# Altium footprint library UC-PCB.PcbLib: 145 footprints (part 8 of 10)
Each footprint in its own frame and in the unit in brackets; x right, y up, seen from the top. Pads: shape width x height; smd on the part's side, far side on the other; paste and mask are expansions set on the pad; w line width, h text height; cw(c..) or ccw(c..) is an arc to the next point about the centre after c.
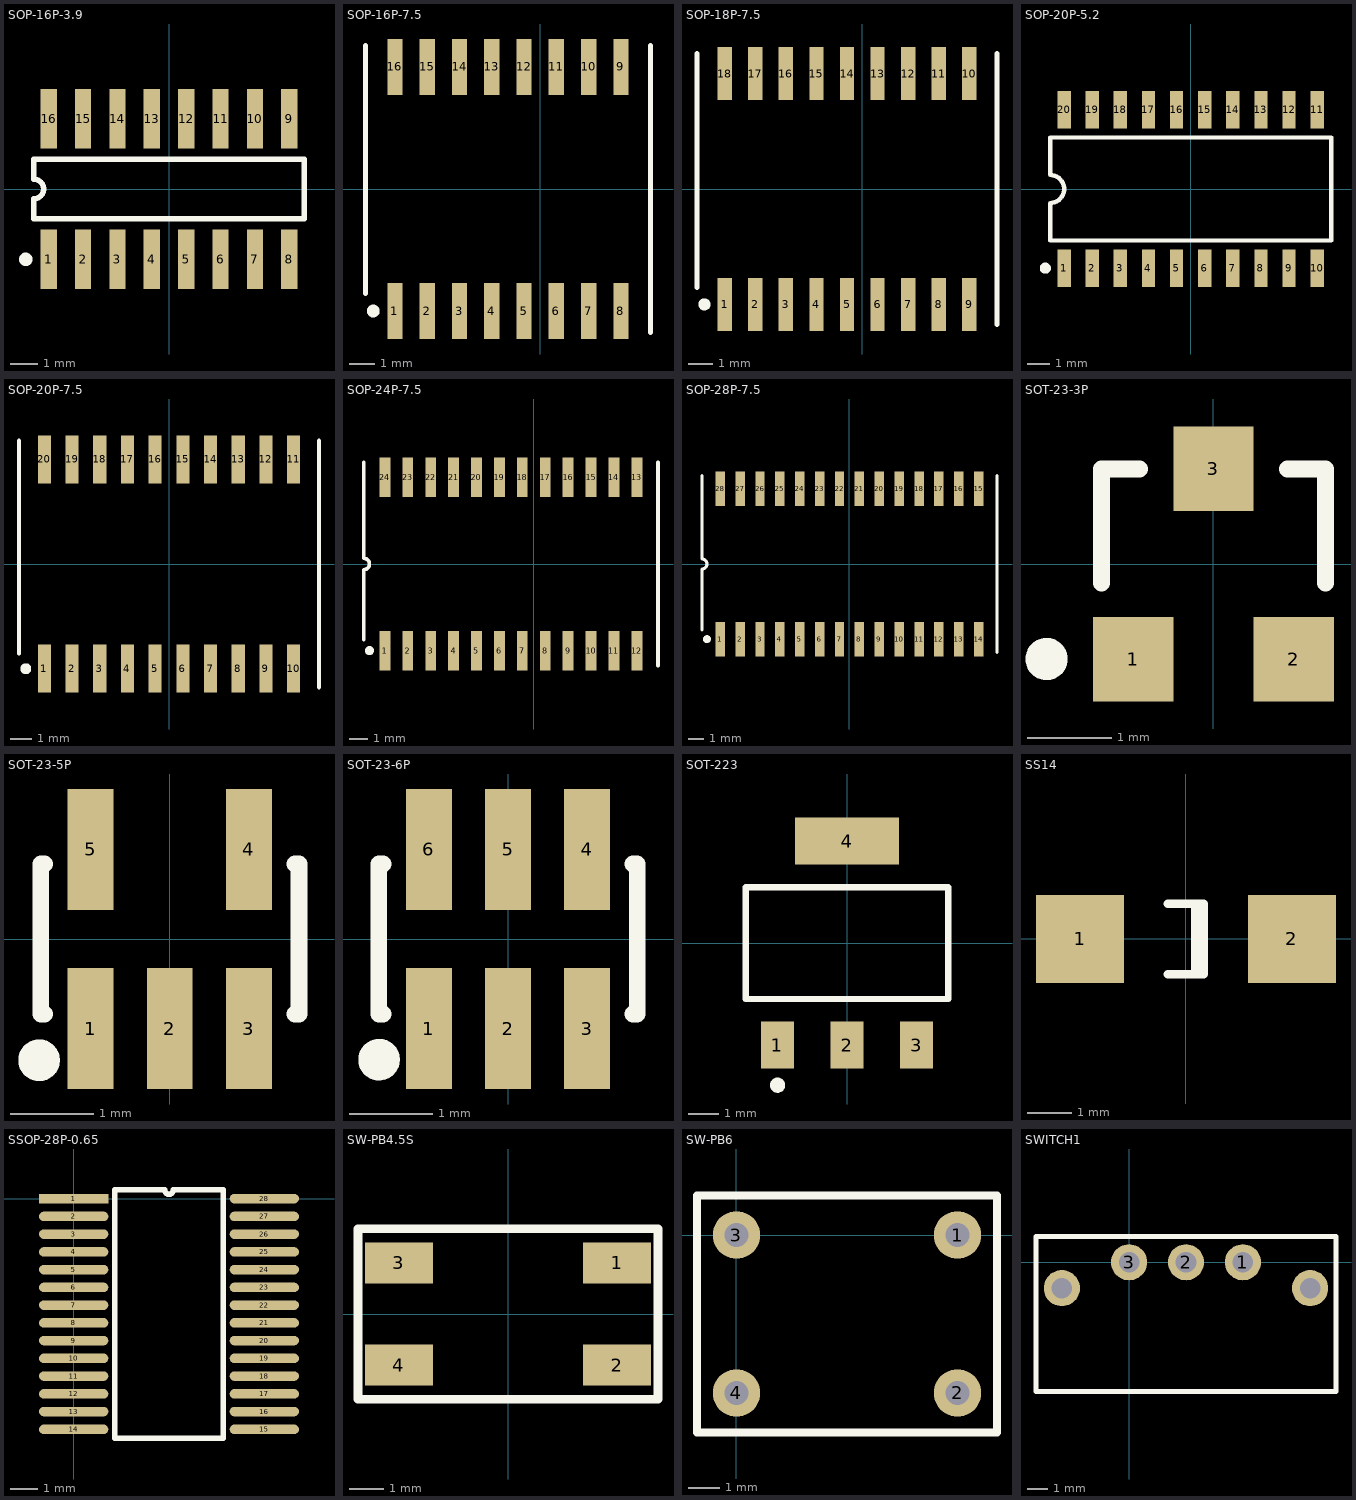
[diagram p7: the footprints below, top view; thin cyan lines are the x and y axes]

## SOP-16P-3.9 [mm]
height 1.75
pads (16):
  rect 0.6x2.2 smd: 1(-4.445,-2.6) 2(-3.175,-2.6) 3(-1.905,-2.6) 4(-0.635,-2.6) 5(0.635,-2.6) 6(1.905,-2.6) 7(3.175,-2.6) 8(4.445,-2.6) 9(4.445,2.6) 10(3.175,2.6) 11(1.905,2.6) 12(0.635,2.6) 13(-0.635,2.6) 14(-1.905,2.6) 15(-3.175,2.6) 16(-4.445,2.6)
Top Overlay:
  circle w0.25: c-5.295,-2.6 r0.125
  lines w0.2: -5,-1.1 5,-1.1 5,1.1 -5,1.1 -5,0.367 cw(c-5,0) -5,-0.367 -5,-1.1

## SOP-16P-7.5 [mm]
height 3.75
pads (16):
  rect 0.6x2.2 smd: 1(-5.715,-4.8) 2(-4.445,-4.8) 3(-3.175,-4.8) 4(-1.905,-4.8) 5(-0.635,-4.8) 6(0.635,-4.8) 7(1.905,-4.8) 8(3.175,-4.8) 9(3.175,4.8) 10(1.905,4.8) 11(0.635,4.8) 12(-0.635,4.8) 13(-1.905,4.8) 14(-3.175,4.8) 15(-4.445,4.8) 16(-5.715,4.8)
Top Overlay:
  circle w0.25: c-6.565,-4.8 r0.125
  lines w0.2: -6.875,-4.1 -6.875,5.65 ; 4.34,-5.65 4.34,5.65

## SOP-18P-7.5 [mm]
height 3.75
pads (18):
  rect 0.6x2.2 smd: 1(-5.715,-4.8) 2(-4.445,-4.8) 3(-3.175,-4.8) 4(-1.905,-4.8) 5(-0.635,-4.8) 6(0.635,-4.8) 7(1.905,-4.8) 8(3.175,-4.8) 9(4.445,-4.8) 10(4.445,4.8) 11(3.175,4.8) 12(1.905,4.8) 13(0.635,4.8) 14(-0.635,4.8) 15(-1.905,4.8) 16(-3.175,4.8) 17(-4.445,4.8) 18(-5.715,4.8)
Top Overlay:
  circle w0.25: c-6.565,-4.8 r0.125
  lines w0.2: -6.875,-4.1 -6.875,5.65 ; 5.605,-5.65 5.605,5.65

## SOP-20P-5.2 [mm]
height 2.1
pads (20):
  rect 0.6x1.7 smd: 1(-5.715,-3.575) 2(-4.445,-3.575) 3(-3.175,-3.575) 4(-1.905,-3.575) 5(-0.635,-3.575) 6(0.635,-3.575) 7(1.905,-3.575) 8(3.175,-3.575) 9(4.445,-3.575) 10(5.715,-3.575) 11(5.715,3.575) 12(4.445,3.575) 13(3.175,3.575) 14(1.905,3.575) 15(0.635,3.575) 16(-0.635,3.575) 17(-1.905,3.575) 18(-3.175,3.575) 19(-4.445,3.575) 20(-5.715,3.575)
Top Overlay:
  circle w0.25: c-6.565,-3.575 r0.125
  lines w0.2: -6.35,-2.325 6.35,-2.325 6.35,2.325 -6.35,2.325 -6.35,0.635 cw(c-6.35,0) -6.35,-0.635 -6.35,-2.325

## SOP-20P-7.5 [mm]
height 3.75
pads (20):
  rect 0.6x2.2 smd: 1(-5.715,-4.8) 2(-4.445,-4.8) 3(-3.175,-4.8) 4(-1.905,-4.8) 5(-0.635,-4.8) 6(0.635,-4.8) 7(1.905,-4.8) 8(3.175,-4.8) 9(4.445,-4.8) 10(5.715,-4.8) 11(5.715,4.8) 12(4.445,4.8) 13(3.175,4.8) 14(1.905,4.8) 15(0.635,4.8) 16(-0.635,4.8) 17(-1.905,4.8) 18(-3.175,4.8) 19(-4.445,4.8) 20(-5.715,4.8)
Top Overlay:
  circle w0.25: c-6.565,-4.8 r0.125
  lines w0.2: -6.875,-4.1 -6.875,5.65 ; 6.875,-5.65 6.875,5.65

## SOP-24P-7.5 [mm]
pads (24):
  rect 0.6x2.2 smd: 1(-8.255,-4.8) 2(-6.985,-4.8) 3(-5.715,-4.8) 4(-4.445,-4.8) 5(-3.175,-4.8) 6(-1.905,-4.8) 7(-0.635,-4.8) 8(0.635,-4.8) 9(1.905,-4.8) 10(3.175,-4.8) 11(4.445,-4.8) 12(5.715,-4.8) 13(5.715,4.8) 14(4.445,4.8) 15(3.175,4.8) 16(1.905,4.8) 17(0.635,4.8) 18(-0.635,4.8) 19(-1.905,4.8) 20(-3.175,4.8) 21(-4.445,4.8) 22(-5.715,4.8) 23(-6.985,4.8) 24(-8.255,4.8)
Top Overlay:
  circle w0.25: c-9.105,-4.8 r0.125
  lines w0.2: -9.425,-4.2 -9.425,-0.318 ccw(c-9.425,0) -9.425,0.318 -9.425,5.65 ; 6.885,-5.65 6.885,5.65

## SOP-28P-7.5 [mm]
pads (28):
  rect 0.6x2.2 smd: 1(-8.255,-4.8) 2(-6.985,-4.8) 3(-5.715,-4.8) 4(-4.445,-4.8) 5(-3.175,-4.8) 6(-1.905,-4.8) 7(-0.635,-4.8) 8(0.635,-4.8) 9(1.905,-4.8) 10(3.175,-4.8) 11(4.445,-4.8) 12(5.715,-4.8) 13(6.985,-4.8) 14(8.255,-4.8) 15(8.255,4.8) 16(6.985,4.8) 17(5.715,4.8) 18(4.445,4.8) 19(3.175,4.8) 20(1.905,4.8) 21(0.635,4.8) 22(-0.635,4.8) 23(-1.905,4.8) 24(-3.175,4.8) 25(-4.445,4.8) 26(-5.715,4.8) 27(-6.985,4.8) 28(-8.255,4.8)
Top Overlay:
  circle w0.25: c-9.105,-4.8 r0.125
  lines w0.2: -9.425,-4.2 -9.425,-0.318 ccw(c-9.425,0) -9.425,0.318 -9.425,5.65 ; 9.425,-5.65 9.425,5.65

## SOT-23-3P [mm]
height 1.2
pads (3):
  rect 0.95x1 smd: 1(-0.95,-1.125) 2(0.95,-1.125) 3(0,1.125)
Top Overlay:
  circle w0.25: c-1.975,-1.125 r0.125
  lines w0.2: -1.328,1.125 -0.875,1.125 ; -1.325,-0.225 -1.325,1.125 ; 0.875,1.125 1.325,1.125 1.325,-0.225

## SOT-23-5P [mm]
pads (5):
  rect 0.55x1.45 smd: 1(-0.95,-1.075) 2(0,-1.075) 3(0.95,-1.075) 4(0.95,1.075) 5(-0.95,1.075)
Top Overlay:
  circle w0.25: c-1.569,-1.455 r0.125
  lines w0.2: -1.5,-0.9 -1.55,-0.9 -1.55,0.9 -1.5,0.9 ; 1.5,-0.9 1.55,-0.9 1.55,0.9 1.5,0.9

## SOT-23-6P [mm]
pads (6):
  rect 0.55x1.45 smd: 1(-0.95,-1.075) 2(0,-1.075) 3(0.95,-1.075) 4(0.95,1.075) 5(0,1.075) 6(-0.95,1.075)
Top Overlay:
  circle w0.25: c-1.547,-1.448 r0.125
  lines w0.2: -1.5,-0.9 -1.55,-0.9 -1.55,0.9 -1.5,0.9 ; 1.5,-0.9 1.55,-0.9 1.55,0.9 1.5,0.9

## SOT-223 [mm]
height 1.8
pads (4):
  rect 1.1x1.55 smd: 1(-2.3,-3.375) 2(0,-3.375) 3(2.3,-3.375)
  rect 3.45x1.55 smd: 4(0,3.375)
Top Overlay:
  circle w0.25: c-2.3,-4.7 r0.125
  lines w0.2: -3.35,-1.85 -3.35,1.85 3.35,1.85 3.35,-1.85 -3.35,-1.85

## SS14 [mm]
height 1.35
pads (2):
  rect 2x2 smd: 1(-2.4,0) 2(2.4,0)
Top Overlay:
  lines w0.2: -0.406,-0.8 0.402,-0.8 0.402,0.8 -0.406,0.8 ; 0.212,-0.8 0.212,0.8

## SSOP-28P-0.65 [mm]
pads (28):
  rect 2.54x0.35 smd: 1(0,0)
  oval 2.54x0.35 smd: 2(0,-0.65) 3(0,-1.3) 4(0,-1.95) 5(0,-2.6) 6(0,-3.25) 7(0,-3.9) 8(0,-4.55) 9(0,-5.2) 10(0,-5.85) 11(0,-6.5) 12(0,-7.15) 13(0,-7.8) 14(0,-8.45) 15(6.985,-8.45) 16(6.985,-7.8) 17(6.985,-7.15) 18(6.985,-6.5) 19(6.985,-5.85) 20(6.985,-5.2) 21(6.985,-4.55) 22(6.985,-3.9) 23(6.985,-3.25) 24(6.985,-2.6) 25(6.985,-1.95) 26(6.985,-1.3) 27(6.985,-0.65) 28(6.985,0)
Top Overlay:
  lines w0.2: 1.5,-8.775 5.485,-8.775 5.485,0.325 3.655,0.325 cw(c3.492,0.325) 3.33,0.325 1.5,0.325 1.5,-8.775

## SW-PB4.5S [mm]
pads (4):
  rect 2x1.2 smd: 1(3.2,1.5) 2(3.2,-1.5) 3(-3.2,1.5) 4(-3.2,-1.5)
Top Overlay:
  lines w0.254: -4.4,-2.5 4.4,-2.5 4.4,2.5 -4.4,2.5 -4.4,-2.5

## SW-PB6 [mil]
pads (4):
  round 60 hole 30: 1(280,0) 2(280,-200) 3(0,0) 4(0,-200)
Top Overlay:
  lines w10: -50,-250 -50,50 330,50 330,-250 -50,-250

## SWITCH1 [mil]
pads (5):
  round 70 hole 40: 1(220,0) 2(110,0) 3(0,0) ""(-130,-50) ""(350,-50)
Top Overlay:
  lines w10: -180,-250 -180,50 400,50 400,-250 -180,-250